# Altium schematic symbol library simple port.SchLib: 1 symbol
Pins are listed as number, name and electrical type; pins without a type are passive.

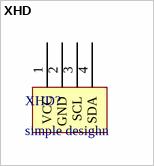
[diagram p0: symbol XHD]

## XHD
designator XHD?, comment simple desighn
footprint PORT
pins: 1 VCC, 2 GND, 3 SCL, 4 SDA